# Altium footprint library MM3Z.PcbLib: 1 footprints
Each footprint in its own frame and in the unit in brackets; x right, y up, seen from the top. Pads: shape width x height; smd on the part's side, far side on the other; paste and mask are expansions set on the pad; w line width, h text height; cw(c..) or ccw(c..) is an arc to the next point about the centre after c.
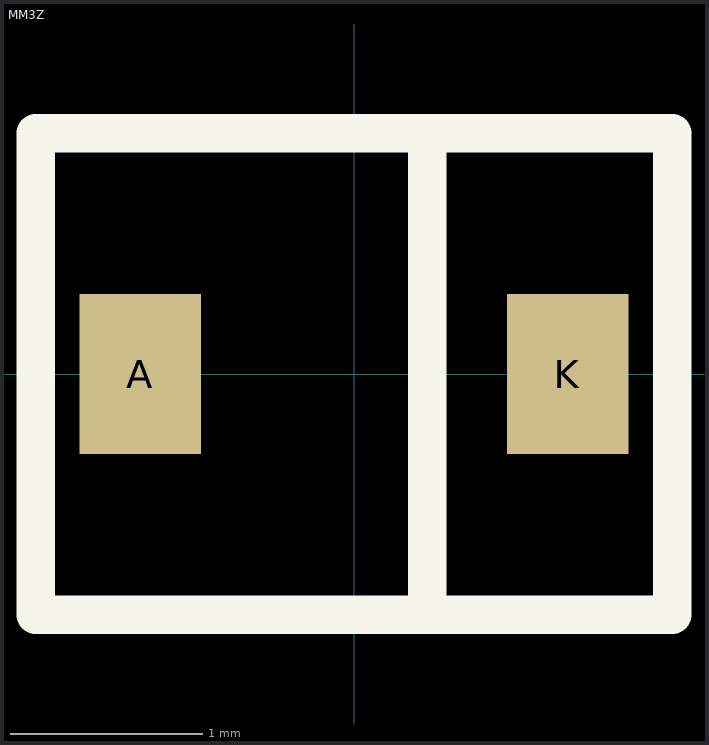
[diagram p0: the footprint, top view; thin cyan lines are the x and y axes]

## MM3Z [mm]
pads (2):
  rect 0.63x0.83 smd: A(-1.11,0) K(1.11,0)
Top Overlay:
  lines w0.2: 0.381,-1.25 0.381,1.25 ; -1.651,-1.25 -1.651,1.25 1.651,1.25 1.651,-1.25 -1.651,-1.25